# Altium footprint library microphon.PCBLIB: 19 footprints (part 1 of 2)
Each footprint in its own frame and in the unit in brackets; x right, y up, seen from the top. Pads: shape width x height; smd on the part's side, far side on the other; paste and mask are expansions set on the pad; w line width, h text height; cw(c..) or ccw(c..) is an arc to the next point about the centre after c.
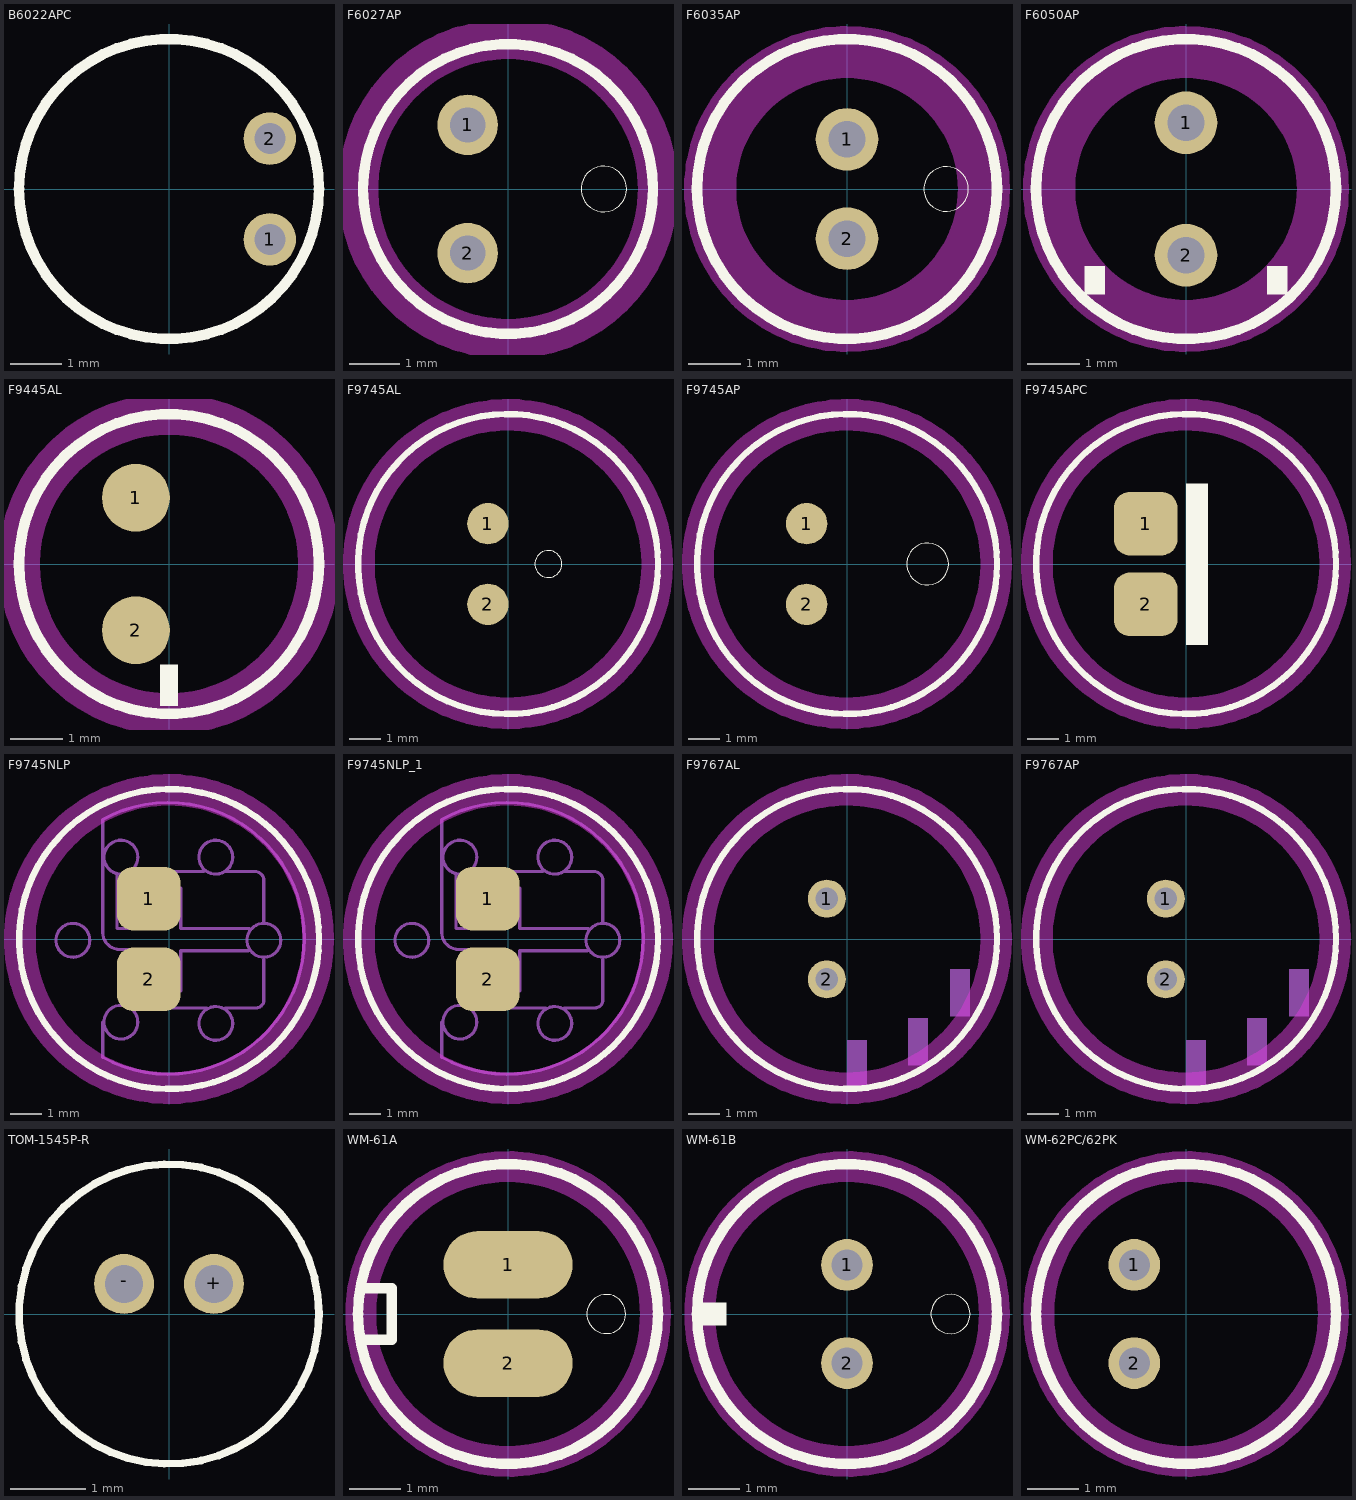
[diagram p0: the footprints below, top view; thin cyan lines are the x and y axes]

## B6022APC [mil]
pads (2):
  round 40 hole 23.62: 1(76.77,-38.39) 2(76.77,38.39)
Top Layer:
  text "Measurement?" at -125,-150 h77.5
Top Overlay:
  circle w8: c0,0 r114.18

## F6027AP [mil]
pads (2):
  round 47.24 hole 27.56: 1(-31.5,50) 2(-31.5,-50)
Top Layer:
  text "Measurement?" at -125,-150 h77.5
Top Layer keep-out:
  circle w31.5: c0,0 r117.13
Top Overlay:
  circle w8: c0,0 r113.2
  circle w0: c74.8,0 r17.74

## F6035AP [mm]
pads (2):
  round 1.2 hole 0.7: 1(0,0.95) 2(0,-0.95)
Top Layer keep-out:
  circle w1: c0,0 r2.625
Top Overlay:
  circle w0.203: c0,0 r2.875
  circle w0: c1.9,0 r0.428

## F6050AP [mm]
pads (2):
  round 1.2 hole 0.7: 1(0,1.27) 2(0,-1.27)
Top Layer keep-out:
  circle w1: c0,0 r2.625
Top Overlay:
  circle w0.203: c0,0 r2.875
  rectangle: 1.55,-2.025 1.95,-1.475
  rectangle: -1.95,-2.025 -1.55,-1.475

## F9445AL [mm]
pads (2):
  rrect100% 1.3x1.3 smd: 1(-0.635,1.27) 2(-0.635,-1.27)
Top Layer:
  text "Measurement?" at -3.175,-3.81 h1.97
Top Layer keep-out:
  circle w0.8: c0,0 r2.875
Top Overlay:
  circle w0.203: c0,0 r2.875
  rectangle: -0.175,-2.725 0.175,-1.925

## F9745AL [mm]
pads (2):
  rrect100% 1.3x1.3 smd: 1(-0.635,1.27) 2(-0.635,-1.27)
Top Layer:
  text "Measurement?" at -5.08,-5.08 h2.76
Top Layer keep-out:
  circle w1: c0,0 r4.7
Top Overlay:
  circle w0: c1.27,0 r0.425
  circle w0.203: c0,0 r4.725

## F9745AP [mm]
pads (2):
  rrect100% 1.3x1.3 smd: 1(-1.27,1.27) 2(-1.27,-1.27)
Top Layer:
  text "Measurement?" at -5.08,-5.715 h2.76
Top Layer keep-out:
  circle w1: c0,0 r4.7
Top Overlay:
  circle w0.203: c0,0 r4.725
  circle w0: c2.54,0 r0.66

## F9745APC [mm]
pads (2):
  rrect50% 2x2 smd: 1(-1.27,1.27) 2(-1.27,-1.27)
Top Layer:
  text "Measurement?" at -5.08,-5.715 h2.76
Top Layer keep-out:
  circle w1: c0,0 r4.7
Top Overlay:
  circle w0.203: c0,0 r4.725
  rectangle: 0,-2.55 0.7,2.54

## F9745NLP [mm]
pads (2):
  rrect50% 2x2 smd: 1(-0.635,1.27) 2(-0.635,-1.27)
Top Layer:
  text "Measurement?" at -5.08,-5.715 h2.76
Top Layer keep-out:
  circle w1: c0,0 r4.7
Top Overlay:
  circle w0.203: c0,0 r4.725
Mechanical 16:
  circle w0.102: c-3.029,-0.041 r0.534
  circle w0.102: c2.988,-0.041 r0.534
  circle w0.102: c1.473,-2.66 r0.532
  circle w0.102: c-1.514,-2.62 r0.532
  circle w0.102: c-1.514,2.579 r0.533
  circle w0.102: c1.473,2.579 r0.534
  lines w0.102: -2.087,-2.62 -2.087,-3.724 ccw(c-0.017,0.02) -2.087,3.765 -2.087,0.205 ccw(c-1.555,0.205) -1.555,-0.327 -0.082,-0.327 cw(c-0.082,-0.368) -0.041,-0.368 -0.041,-1.637 0.368,-1.637 0.368,-0.368 2.497,-0.368 ; -1.637,2.006 -1.637,0.327 -0.041,0.327 -0.041,1.596 0.368,1.596 0.368,0.327 2.537,0.327 ; -1.187,2.128 1.105,2.128 ; -1.146,-2.169 1.187,-2.169 ; 1.76,-2.169 2.742,-2.169 ccw(c2.742,-1.923) 2.988,-1.924 2.988,-0.655 ; 1.801,2.128 2.701,2.128 cw(c2.701,1.842) 2.988,1.842 2.988,0.532

## F9745NLP_1 [mm]
pads (2):
  rrect50% 2x2 smd: 1(-0.635,1.27) 2(-0.635,-1.27)
Top Layer:
  text "Measurement?" at -5.08,-5.08 h2.76
Top Layer keep-out:
  circle w1: c0,0 r4.7
Top Overlay:
  circle w0.203: c0,0 r4.725
Mechanical 16:
  circle w0.102: c-3.029,-0.041 r0.534
  circle w0.102: c2.988,-0.041 r0.534
  circle w0.102: c1.473,-2.66 r0.532
  circle w0.102: c-1.514,-2.62 r0.532
  circle w0.102: c-1.514,2.579 r0.533
  circle w0.102: c1.473,2.579 r0.534
  lines w0.102: -2.087,-2.62 -2.087,-3.724 ccw(c-0.017,0.02) -2.087,3.765 -2.087,0.205 ccw(c-1.555,0.205) -1.555,-0.327 -0.082,-0.327 cw(c-0.082,-0.368) -0.041,-0.368 -0.041,-1.637 0.368,-1.637 0.368,-0.368 2.497,-0.368 ; -1.637,2.006 -1.637,0.327 -0.041,0.327 -0.041,1.596 0.368,1.596 0.368,0.327 2.537,0.327 ; -1.187,2.128 1.105,2.128 ; -1.146,-2.169 1.187,-2.169 ; 1.76,-2.169 2.742,-2.169 ccw(c2.742,-1.924) 2.988,-1.924 2.988,-0.655 ; 1.801,2.128 2.701,2.128 cw(c2.701,1.842) 2.988,1.842 2.988,0.532

## F9767AL [mm]
pads (2):
  round 1.2 hole 0.7: 1(-0.635,1.27) 2(-0.635,-1.27)
Top Layer:
  text "Measurement?" at -5.08,-5.08 h1.97
Top Layer keep-out:
  circle w1: c0,0 r4.7
Top Overlay:
  circle w0.203: c0,0 r4.725
Mechanical 16:
  rectangle: 0,-4.675 0.635,-3.175
  rectangle: 1.92,-3.99 2.555,-2.49
  rectangle: 3.24,-2.437 3.875,-0.938

## F9767AP [mm]
pads (2):
  round 1.2 hole 0.7: 1(-0.635,1.27) 2(-0.635,-1.27)
Top Layer:
  text "Measurement?" at -3.175,-3.81 h1.97
Top Layer keep-out:
  circle w1: c0,0 r4.7
Top Overlay:
  circle w0.203: c0,0 r4.725
Mechanical 16:
  rectangle: 0,-4.675 0.635,-3.175
  rectangle: 1.92,-3.99 2.555,-2.49
  rectangle: 3.24,-2.437 3.875,-0.938

## TOM-1545P-R [mil]
pads (2):
  round 31.5 hole 19.69: +(23.62,15.75) -(-23.62,15.75)
Top Overlay:
  circle w4: c0,0 r78.74

## WM-61A [mm]
pads (2):
  rrect100% 2.5x1.3 smd: 1(0,0.95) 2(0,-0.95)
Top Layer keep-out:
  circle w0.6: c0,0 r2.85
Top Overlay:
  circle w0.203: c0,0 r2.9
  circle w0: c1.9,0 r0.376
  lines w0.203: -2.75,-0.5 -2.25,-0.5 -2.25,0.5 -2.75,0.5

## WM-61B [mm]
pads (2):
  round 1 hole 0.6: 1(0,0.95) 2(0,-0.95)
Top Layer keep-out:
  circle w0.6: c0,0 r2.85
Top Overlay:
  circle w0.203: c0,0 r2.9
  circle w0: c2,0 r0.378
  rectangle: -2.8,-0.225 -2.325,0.225

## WM-62PC/62PK [mm]
pads (2):
  round 1 hole 0.6: 1(-1,0.95) 2(-1,-0.95)
Top Layer keep-out:
  circle w0.6: c0,0 r2.85
Top Overlay:
  circle w0.203: c0,0 r2.9